# Altium schematic symbol library FP_lib_SCH.SchLib: 18 symbols
Pins are listed as number, name and electrical type; pins without a type are passive.

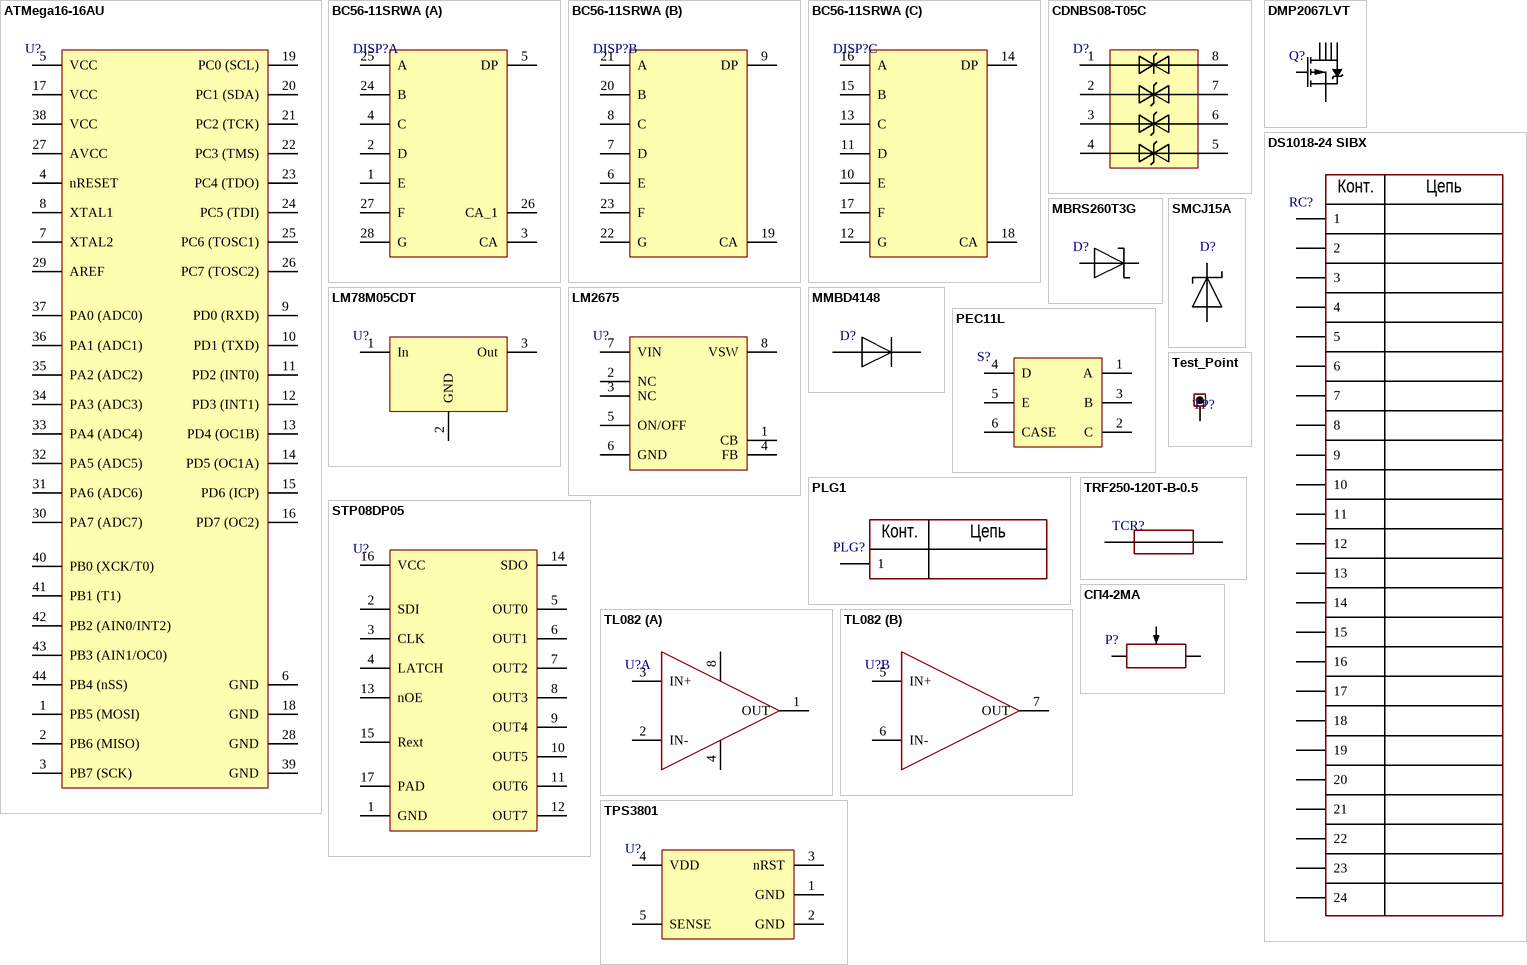
[diagram p0: symbols ATMega16-16AU to СП4-2МА]

## ATMega16-16AU
designator U?
ValueManufacturerPartNumber: ATMega16-16AU, TQFP-44; PartNumber: ATMega16-16AU; Package: TQFP-44
footprint TQFP80P1200X1200X120-44L (TQFP, 44-Leads, Body 10,00x10,00mm, Pitch 0,80mm, IPC High Density)
pins: 1 PB5 (MOSI), 2 PB6 (MISO), 3 PB7 (SCK), 4 nRESET, 5 VCC, 6 GND, 7 XTAL2, 8 XTAL1, 9 PD0 (RXD), 10 PD1 (TXD), 11 PD2 (INT0), 12 PD3 (INT1), 13 PD4 (OC1B), 14 PD5 (OC1A), 15 PD6 (ICP), 16 PD7 (OC2), 17 VCC, 18 GND, 19 PC0 (SCL), 20 PC1 (SDA), 21 PC2 (TCK), 22 PC3 (TMS), 23 PC4 (TDO), 24 PC5 (TDI), 25 PC6 (TOSC1), 26 PC7 (TOSC2), 27 AVCC, 28 GND, 29 AREF, 30 PA7 (ADC7), 31 PA6 (ADC6), 32 PA5 (ADC5), 33 PA4 (ADC4), 34 PA3 (ADC3), 35 PA2 (ADC2), 36 PA1 (ADC1), 37 PA0 (ADC0), 38 VCC, 39 GND, 40 PB0 (XCK/T0), 41 PB1 (T1), 42 PB2 (AIN0/INT2), 43 PB3 (AIN1/OC0), 44 PB4 (nSS)

## BC56-11SRWA
designator DISP?
ValueManufacturerPartNumber: LED display, BA56-11SRWA; PartNumber: BA56-11SRWA
footprint BC56-11SRWA
part A pins: 1 E, 2 D, 3 CA, 4 C, 5 DP, 24 B, 25 A, 26 CA_1, 27 F, 28 G
part B pins: 6 E, 7 D, 8 C, 9 DP, 19 CA, 20 B, 21 A, 22 G, 23 F
part C pins: 10 E, 11 D, 12 G, 13 C, 14 DP, 15 B, 16 A, 17 F, 18 CA

## CDNBS08-T05C
designator D?
ValueManufacturerPartNumber: CDNBS08-T05C, SOIC-8; PartNumber: CDNBS08-T05C; Package: SOIC-8
footprint 8-SOIC (pitch 1.27 mm)
pins: 1, 2, 3, 4, 5, 6, 7, 8

## DMP2067LVT
designator Q?
ValueManufacturerPartNumber: DMP2067LVT, SOT23-6; PartNumber: DMP2067LVT; Package: SOT23-6
footprint SOT23-6 (pitch 0.95 mm)
pins: 1 D, 2 D, 3 G, 4 S, 5 D, 6 D

## DS1018-24 SIBX
designator RC?
ValueManufacturerPartNumber: DS1018-24 SIBX, 24 pin; PartNumber: DS1018-24 SIBX; Multichannel: 24 pin
footprint DS1018-24 SIBX
pins: 1, 2, 3, 4, 5, 6, 7, 8, 9, 10, 11, 12, 13, 14, 15, 16, 17, 18, 19, 20, 21, 22, 23, 24
text: Конт.; Цепь

## LM78M05CDT
designator U?
ValueManufacturerPartNumber: LM78M05CDT, DPAK; PartNumber: LM78M05CDT; Package: DPAK
footprint DPAK
pins: 1 In, 2 GND, 3 Out

## LM2675
designator U?
ValueManufacturerPartNumber: LM2675, SOIC-8; PartNumber: LM2675; Package: SOIC-8
footprint 8-SOIC (pitch 1.27 mm)
pins: 1 CB, 2 NC, 3 NC, 4 FB, 5 ON/OFF, 6 GND, 7 VIN, 8 VSW

## MBRS260T3G
designator D?
ValueManufacturerPartNumber: MBRS260T3G, SMB; PartNumber: MBRS260T3G; Package: SMB
footprint DIODE: SMB
pins: 1, 2

## MMBD4148
designator D?
ValueManufacturerPartNumber: MMBD4148, SOT23; PartNumber: MMBD4148; Package: SOT23
footprint SOT23
pins: 1, 3

## PEC11L
designator S?
ValueManufacturerPartNumber: PEC11L; PartNumber: PEC11L
footprint PEC11L
pins: 1 A, 2 C, 3 B, 4 D, 5 E, 6 CASE

## PLG1
designator PLG?  (value not drawn)  (no BOM)
footprint PLG1
pins: 1
text: Конт.; Цепь

## SMCJ15A
designator D?
ValueManufacturerPartNumber: SMCJ15A, SMC; PartNumber: SMCJ15A; Package: SMC
footprint DIODE: SMC
pins: 1 A, 2 C

## STP08DP05
designator U?
ValueManufacturerPartNumber: STP08DP05, TSOP-16; PartNumber: STP08DP05; Package: TSOP-16
footprint STP08DP05 (TSOP, 16-Leads, Body 5,00x4,40mm, Pitch 0,65mm, Thermal Pad 3,00x3,00mm, IPC High Density)
pins: 1 GND, 2 SDI, 3 CLK, 4 LATCH, 5 OUT0, 6 OUT1, 7 OUT2, 8 OUT3, 9 OUT4, 10 OUT5, 11 OUT6, 12 OUT7, 13 nOE, 14 SDO, 15 Rext, 16 VCC, 17 PAD

## Test_Point
designator TP?  (value not drawn)  (no BOM)
footprint Test_Point
pins: 1

## TL082
designator U?
ValueManufacturerPartNumber: TL082, SOIC-8; PartNumber: TL082; Package: SOIC-8
footprint 8-SOIC (pitch 1.27 mm)
part A pins: 1 OUT, 2 IN-, 3 IN+, 4 V-, 8 V+
part B pins: 5 IN+, 6 IN-, 7 OUT

## TPS3801
designator U?
ValueManufacturerPartNumber: TPS3801, SOT23-5; PartNumber: TPS3801; Package: SOT23-5
footprint TPS3801 (SOT23, 5-Leads, Body 1,25x2,10mm, Pitch 0,65mm, IPC High Density)
pins: 1 GND, 2 GND, 3 nRST, 4 VDD, 5 SENSE

## TRF250-120T-B-0.5
designator TCR?
ValueManufacturerPartNumber: TRF250-120T-B-0.5; PartNumber: TRF250-120T-B-0.5
footprint TRF250-120T-B-0.5
pins: 1, 2

## СП4-2МА
designator P?
ValueManufacturerPartNumber: СП4-2МА; PartNumber: СП4-2МА
footprint СП4-2МА
pins: 1 CCW, 2, 3 CW